# Altium schematic symbol library BSS84.Schlib: 1 symbol
Pins are listed as number, name and electrical type; pins without a type are passive.

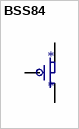
[diagram p0: symbol BSS84]

## BSS84
designator *
PMOS
pins: 1 G, 2 S, 3 D